# EAGLE library part 10118194-0001LF (library usb_micro)
CONN USB MICRO B RECPT SMT R/A
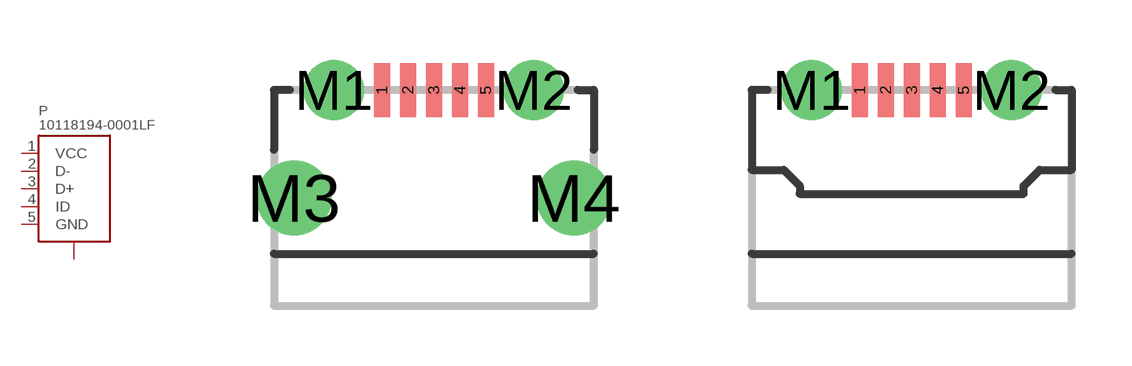
[diagram p0: symbol with the pads of 10118194-0001LF; footprints 10118194-0001LF, 10118194-0001LF-HALF]

Designator prefix P

## 10118194-0001LF (DISTPARTNO: 609-4618-1-ND; DISTRIBUTOR: Digikey; MANPARTNO: 10118194-0001LF; MANUFACTURER: FCI; PARTNO: GT10040; POPULATE: yes)  [10118194-0001LF]
1  VCC  pas
2  D-  pas
3  D+  pas
4  ID  pas
5  GND  pas
M1  SHIELD  pas
M2  SHIELD  pas
M3  SHIELD  pas
M4  SHIELD  pas

## 10118194-0001LF-HALF (DISTPARTNO: 609-4618-1-ND; DISTRIBUTOR: Digikey; MANPARTNO: 10118194-0001LF; MANUFACTURER: FCI; PARTNO: GT10040; POPULATE: yes)  [10118194-0001LF-HALF]
1  VCC  pas
2  D-  pas
3  D+  pas
4  ID  pas
5  GND  pas
M1  SHIELD  pas
M2  SHIELD  pas

## Footprint 10118194-0001LF (pad centres in mm)
smd 0.4 x 1.35: 1 -1.3,2.7; 2 -0.65,2.7; 3 0,2.7; 4 0.65,2.7; 5 1.3,2.7
drill 1: M1 -2.5,2.7; M2 2.5,2.7
drill 1.25: M3 -3.5,0; M4 3.5,0

## Footprint 10118194-0001LF-HALF (pad centres in mm)
smd 0.4 x 1.35: 1 -1.3,2.7; 2 -0.65,2.7; 3 0,2.7; 4 0.65,2.7; 5 1.3,2.7
drill 1: M1 -2.5,2.7; M2 2.5,2.7